# Altium footprint library PcbLib1.PcbLib: 10 footprints
Each footprint in its own frame and in the unit in brackets; x right, y up, seen from the top. Pads: shape width x height; smd on the part's side, far side on the other; paste and mask are expansions set on the pad; w line width, h text height; cw(c..) or ccw(c..) is an arc to the next point about the centre after c.
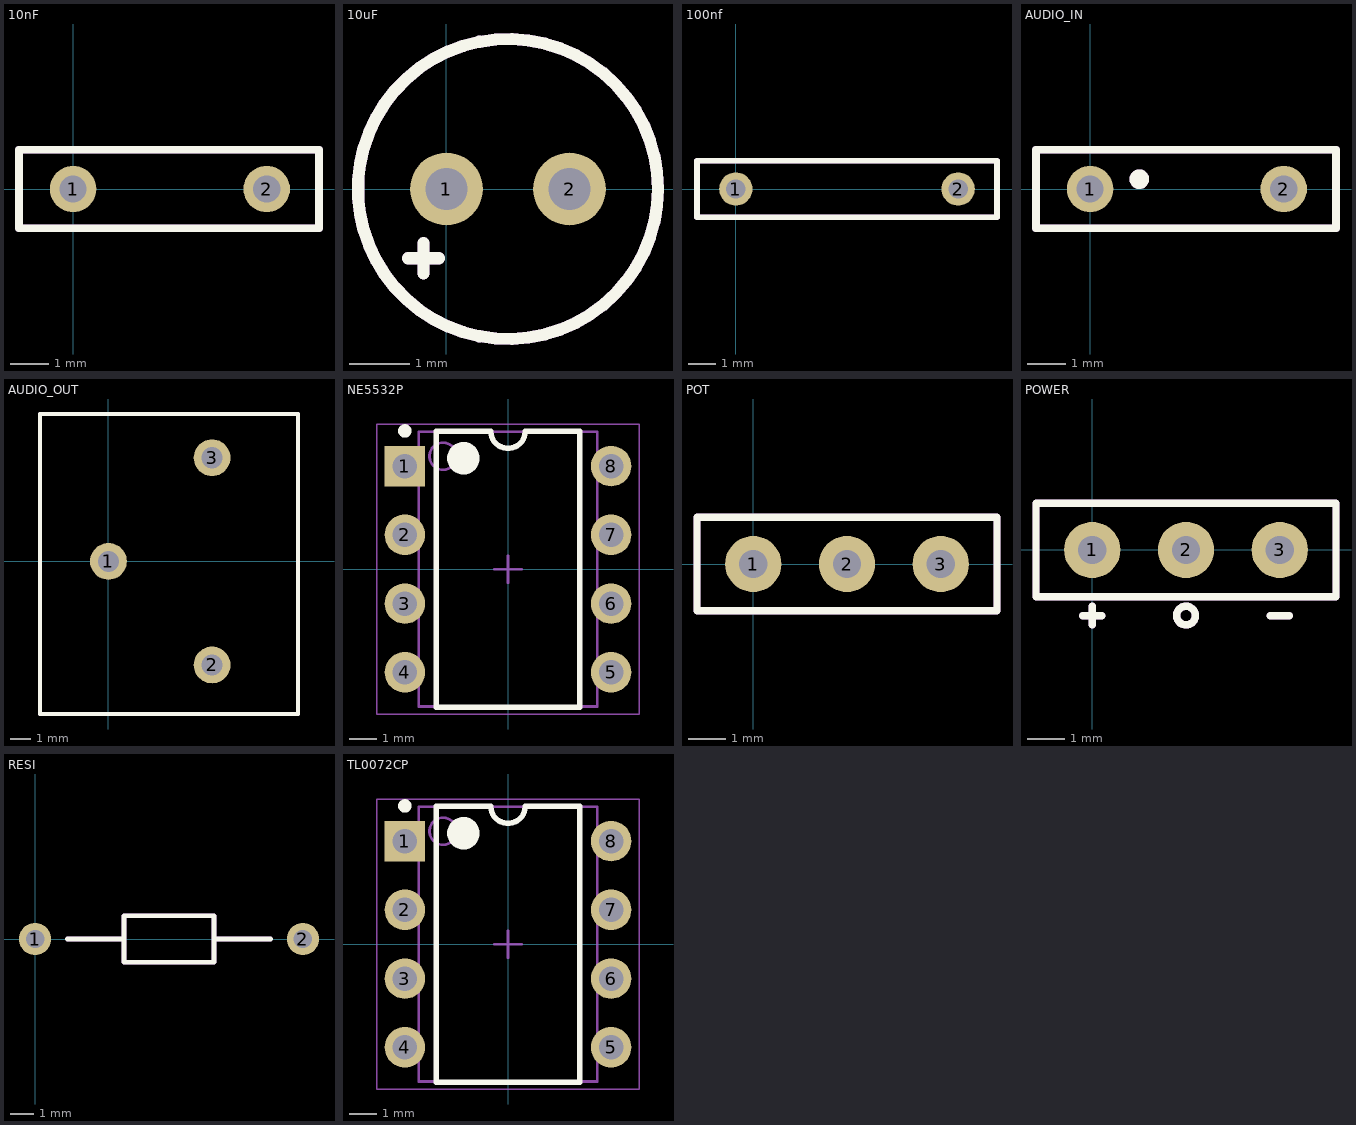
[diagram p0: the footprints below, top view; thin cyan lines are the x and y axes]

## 10nF [mm]
pads (2):
  round 1.2 hole 0.7: 1(0,0) 2(5,0)
Top Overlay:
  lines w0.2: -1.397,-1.016 6.35,-1.016 6.35,1.016 -1.397,1.016 -1.397,-1.016
Top Assembly:
  lines w0.2: -1.397,-1.016 6.35,-1.016 6.35,1.016 -1.397,1.016 -1.397,-1.016
  text "'.Designator'" at -2.685,1.53 h0.9

## 10uF [mm]
pads (2):
  round 1.2 hole 0.7: 1(0,0) 2(2.032,0)
Top Overlay:
  circle w0.2: c1.016,0 r2.476
  lines w0.2: -0.635,-1.143 -0.127,-1.143 ; -0.381,-1.397 -0.381,-0.889
Top Assembly:
  circle w0.2: c1.016,0 r2.476
  lines w0.2: -0.635,-1.143 -0.127,-1.143 ; -0.381,-1.397 -0.381,-0.889
  text "'.Designator'" at -4.082,1.022 h0.9
3D body "CAP_UEP_5X11_NCH.step": height 12.51, standoff -4.06, extent -1.501,-2.457 3.533,2.54

## 100nf [mm]
pads (2):
  round 1.2 hole 0.7: 1(0,0) 2(8,0)
Top Overlay:
  lines w0.2: -1.397,-1.016 -1.397,1.016 9.398,1.016 9.398,-1.016 -1.397,-1.016
Top Assembly:
  lines w0.2: -1.397,-1.016 -1.397,1.016 9.398,1.016 9.398,-1.016 -1.397,-1.016
  text "'.Designator'" at -1.288,1.657 h0.9

## AUDIO_IN [mm]
pads (2):
  round 1.2 hole 0.7: 1(0,0) 2(5,0)
Top Overlay:
  circle w0.254: c1.27,0.254 r0.127
  lines w0.2: -1.397,-1.016 6.35,-1.016 6.35,1.016 -1.397,1.016 -1.397,-1.016
Top Assembly:
  circle w0.254: c1.27,0.254 r0.127
  lines w0.2: -1.397,-1.016 6.35,-1.016 6.35,1.016 -1.397,1.016 -1.397,-1.016
  text "'.Designator'" at -2.685,1.53 h0.9

## AUDIO_OUT [mil]
pads (3):
  round 70 hole 40: 1(0,0) 2(196.85,-196.85) 3(196.85,196.85)
Top Overlay:
  lines w7.87: -130,-290 -130,280 290,280 360,280 360,-290 -130,-290
Top Assembly:
  lines w7.87: -130,-290 -130,280 290,280 360,280 360,-290 -130,-290
  text "'.Designator'" at -50.72,65.24 h35.43

## NE5532P [mm] "DIP, 8-Leads, Body 10.15x6.6mm, Pitch 2.54mm"
height 5.08
pads (8):
  rect 1.5x1.5 hole 0.9: 1(-3.81,3.81)
  round 1.5 hole 0.9: 2(-3.81,1.27) 3(-3.81,-1.27) 4(-3.81,-3.81) 5(3.81,-3.81) 6(3.81,-1.27) 7(3.81,1.27) 8(3.81,3.81)
Top Overlay:
  circle w0.6: c-1.65,4.1 r0.3
  circle w0.25: c-3.81,5.11 r0.125
  lines w0.2: -2.65,-5.1 2.65,-5.1 2.65,5.1 0.635,5.1 cw(c0,5.1) -0.635,5.1 -2.65,5.1 -2.65,-5.1
Mechanical 1:
  text ".Designator" at -1.524,-0.508 h1.02
Mechanical 13:
  circle w0.1: c-2.4,4.175 r0.5
  lines w0.1: -3.3,-5.075 3.3,-5.075 3.3,5.075 -3.3,5.075 -3.3,-5.075
Mechanical 15:
  lines w0.05: -4.85,-5.35 4.85,-5.35 4.85,5.35 -4.85,5.35 -4.85,-5.35
  lines w0.1: -0.5,0 0.5,0 ; 0,-0.5 0,0.5
3D body: height 5.08, standoff 0.51, extent -3.3,-5.075 3.3,5.075
3D body: height 0, standoff -1.6, extent 3.675,3.45 3.945,4.17
3D body: height 2.93, standoff 2.66, extent 3.3,3.31 3.945,4.31
3D body: height 2.66, standoff 0, extent 3.675,3.31 3.945,4.31
3D body: height 0, standoff -1.6, extent 3.675,0.91 3.945,1.63
3D body: height 2.93, standoff 2.66, extent 3.3,0.77 3.945,1.77
3D body: height 2.66, standoff 0, extent 3.675,0.77 3.945,1.77
3D body: height 0, standoff -1.6, extent 3.675,-1.63 3.945,-0.91
3D body: height 2.93, standoff 2.66, extent 3.3,-1.77 3.945,-0.77
3D body: height 2.66, standoff 0, extent 3.675,-1.77 3.945,-0.77
3D body: height 0, standoff -1.6, extent 3.675,-4.17 3.945,-3.45
3D body: height 2.93, standoff 2.66, extent 3.3,-4.31 3.945,-3.31
3D body: height 2.66, standoff 0, extent 3.675,-4.31 3.945,-3.31
3D body: height 0, standoff -1.6, extent -3.945,-4.17 -3.675,-3.45
3D body: height 2.93, standoff 2.66, extent -3.945,-4.31 -3.3,-3.31
3D body: height 2.66, standoff 0, extent -3.945,-4.31 -3.675,-3.31
3D body: height 0, standoff -1.6, extent -3.945,-1.63 -3.675,-0.91
3D body: height 2.93, standoff 2.66, extent -3.945,-1.77 -3.3,-0.77
3D body: height 2.66, standoff 0, extent -3.945,-1.77 -3.675,-0.77
3D body: height 0, standoff -1.6, extent -3.945,0.91 -3.675,1.63
3D body: height 2.93, standoff 2.66, extent -3.945,0.77 -3.3,1.77
3D body: height 2.66, standoff 0, extent -3.945,0.77 -3.675,1.77
3D body: height 0, standoff -1.6, extent -3.945,3.45 -3.675,4.17
3D body: height 2.93, standoff 2.66, extent -3.945,3.31 -3.3,4.31
3D body: height 2.66, standoff 0, extent -3.945,3.31 -3.675,4.31

## POT [mil]
pads (3):
  round 60 hole 30: 1(0,0) 2(100,0) 3(200,0)
Top Overlay:
  lines w7.87: -60,-50 260,-50 260,50 -60,50 -60,-50
Top Assembly:
  lines w7.87: -60,-50 260,-50 260,50 -60,50 -60,-50
  text "'.Designator'" at -110.72,75.24 h35.43

## POWER [mil]
pads (3):
  round 60 hole 30: 1(0,0) 2(100,0) 3(200,0)
Top Overlay:
  circle w7.87: c100,-70 r10
  lines w7.87: -10,-70 10,-70 ; 0,-80 0,-60 ; 190,-70 210,-70 ; -60,-50 260,-50 260,50 -60,50 -60,-50
Top Assembly:
  circle w7.87: c100,-70 r10
  lines w7.87: -10,-70 10,-70 ; 0,-80 0,-60 ; 190,-70 210,-70 ; -60,-50 260,-50 260,50 -60,50 -60,-50
  text "'.Designator'" at -110.72,75.24 h35.43

## RESI [mm]
pads (2):
  round 1.4 hole 0.8: 1(0,0) 2(11.667,0)
Top Overlay:
  lines w0.2: 1.4,0 3.875,0 ; 7.792,0 10.267,0 ; 3.875,0 3.875,-1.016 7.792,-1.016 7.792,1.016 3.875,1.016 3.875,0
Top Assembly:
  lines w0.2: 1.4,0 3.875,0 ; 7.792,0 10.267,0 ; 3.875,0 3.875,-1.016 7.792,-1.016 7.792,1.016 3.875,1.016 3.875,0
  text "'.Designator'" at 0.744,-0.375 h0.9
3D body "YAG_CFR25_YAG.step": height 2.58, standoff -2.79, extent -0.305,-1.293 11.989,1.293

## TL0072CP [mm] "DIP, 8-Leads, Body 10.15x6.6mm, Pitch 2.54mm"
height 5.08
pads (8):
  rect 1.5x1.5 hole 0.9: 1(-3.81,3.81)
  round 1.5 hole 0.9: 2(-3.81,1.27) 3(-3.81,-1.27) 4(-3.81,-3.81) 5(3.81,-3.81) 6(3.81,-1.27) 7(3.81,1.27) 8(3.81,3.81)
Top Overlay:
  circle w0.6: c-1.65,4.1 r0.3
  circle w0.25: c-3.81,5.11 r0.125
  lines w0.2: -2.65,-5.1 2.65,-5.1 2.65,5.1 0.635,5.1 cw(c0,5.1) -0.635,5.1 -2.65,5.1 -2.65,-5.1
Mechanical 1:
  text ".Designator" at -1.524,-0.508 h1.02
Mechanical 13:
  circle w0.1: c-2.4,4.175 r0.5
  lines w0.1: -3.3,-5.075 3.3,-5.075 3.3,5.075 -3.3,5.075 -3.3,-5.075
Mechanical 15:
  lines w0.05: -4.85,-5.35 4.85,-5.35 4.85,5.35 -4.85,5.35 -4.85,-5.35
  lines w0.1: -0.5,0 0.5,0 ; 0,-0.5 0,0.5
3D body: height 5.08, standoff 0.51, extent -3.3,-5.075 3.3,5.075
3D body: height 0, standoff -1.6, extent 3.675,3.45 3.945,4.17
3D body: height 2.93, standoff 2.66, extent 3.3,3.31 3.945,4.31
3D body: height 2.66, standoff 0, extent 3.675,3.31 3.945,4.31
3D body: height 0, standoff -1.6, extent 3.675,0.91 3.945,1.63
3D body: height 2.93, standoff 2.66, extent 3.3,0.77 3.945,1.77
3D body: height 2.66, standoff 0, extent 3.675,0.77 3.945,1.77
3D body: height 0, standoff -1.6, extent 3.675,-1.63 3.945,-0.91
3D body: height 2.93, standoff 2.66, extent 3.3,-1.77 3.945,-0.77
3D body: height 2.66, standoff 0, extent 3.675,-1.77 3.945,-0.77
3D body: height 0, standoff -1.6, extent 3.675,-4.17 3.945,-3.45
3D body: height 2.93, standoff 2.66, extent 3.3,-4.31 3.945,-3.31
3D body: height 2.66, standoff 0, extent 3.675,-4.31 3.945,-3.31
3D body: height 0, standoff -1.6, extent -3.945,-4.17 -3.675,-3.45
3D body: height 2.93, standoff 2.66, extent -3.945,-4.31 -3.3,-3.31
3D body: height 2.66, standoff 0, extent -3.945,-4.31 -3.675,-3.31
3D body: height 0, standoff -1.6, extent -3.945,-1.63 -3.675,-0.91
3D body: height 2.93, standoff 2.66, extent -3.945,-1.77 -3.3,-0.77
3D body: height 2.66, standoff 0, extent -3.945,-1.77 -3.675,-0.77
3D body: height 0, standoff -1.6, extent -3.945,0.91 -3.675,1.63
3D body: height 2.93, standoff 2.66, extent -3.945,0.77 -3.3,1.77
3D body: height 2.66, standoff 0, extent -3.945,0.77 -3.675,1.77
3D body: height 0, standoff -1.6, extent -3.945,3.45 -3.675,4.17
3D body: height 2.93, standoff 2.66, extent -3.945,3.31 -3.3,4.31
3D body: height 2.66, standoff 0, extent -3.945,3.31 -3.675,4.31